# Altium footprint library DOME_SWITCH_10MM.PcbLib: 1 footprints
Each footprint in its own frame and in the unit in brackets; x right, y up, seen from the top. Pads: shape width x height; smd on the part's side, far side on the other; paste and mask are expansions set on the pad; w line width, h text height; cw(c..) or ccw(c..) is an arc to the next point about the centre after c.
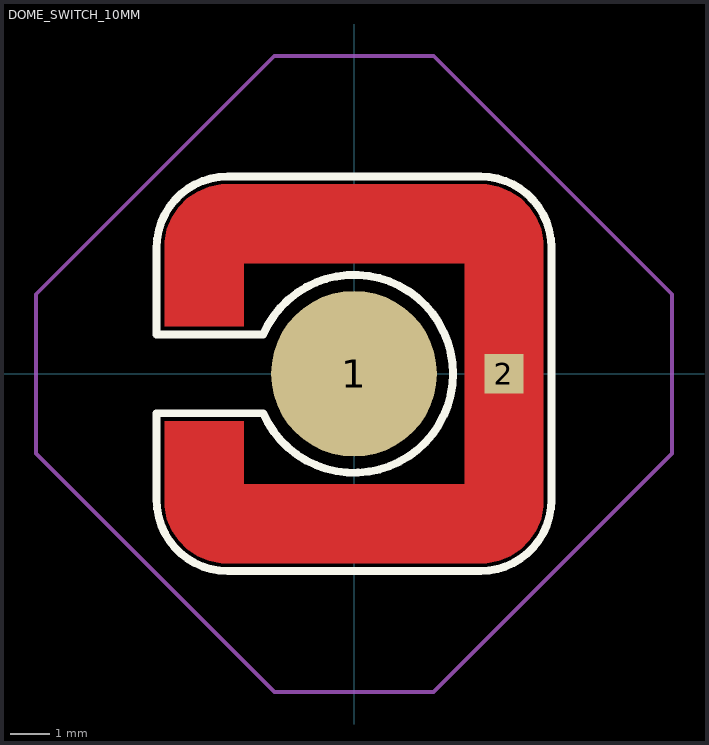
[diagram p0: the footprint, top view; thin cyan lines are the x and y axes]

## DOME_SWITCH_10MM [mm]
pads (2):
  round 4.2 smd: 1(0,0)
  rect 1x1 smd: 2(3.8,0)
Top Layer:
  region: -4.8,1.2 -4.8,3.2 -4.8,3.358 -4.739,3.667 -4.618,3.958 -4.443,4.22 -4.22,4.443 -3.958,4.618 -3.667,4.738 -3.358,4.8 -3.2,4.8 3.2,4.8 3.358,4.8 3.667,4.739 3.958,4.618 4.22,4.443 4.443,4.22 4.618,3.958 4.738,3.667 4.8,3.358 4.8,3.2 4.8,-3.2 4.8,-3.358 4.739,-3.667 4.618,-3.958 4.443,-4.22 4.22,-4.443 3.958,-4.618 3.667,-4.739 3.358,-4.8 3.2,-4.8 -3.2,-4.8 -3.358,-4.8 -3.667,-4.739 -3.958,-4.618 -4.22,-4.443 -4.443,-4.22 -4.618,-3.958 -4.739,-3.667 -4.8,-3.358 -4.8,-3.2 -4.8,-1.2 -2.8,-1.2 -2.8,-2.8 2.8,-2.8 2.8,2.8 -2.8,2.8 -2.8,1.2
Top Overlay:
  lines w0.2: -5,-3.2 ccw(c-3.2,-3.2) -3.2,-5 3.2,-5 ccw(c3.2,-3.2) 5,-3.2 5,3.2 ccw(c3.2,3.2) 3.2,5 -3.2,5 ccw(c-3.2,3.2) -5,3.2 -5,1 -2.3,1 cw(c0,0) -2.3,-1 -5,-1 -5,-3.2
Top Courtyard:
  lines w0.1: -8.062,-2.015 -8.062,2.015 -2.021,8.056 2.021,8.056 8.062,2.015 8.062,-2.015 2.01,-8.067 -0.012,-8.067 -2.01,-8.067 -8.062,-2.015
3D body "SPEOT0174.STEP": height 0.55, standoff 0, extent -7.063,-7.063 7.056,7.055